# Altium schematic symbol library bee_hive_Schlib1.SchLib: 1 symbol
Pins are listed as number, name and electrical type; pins without a type are passive.

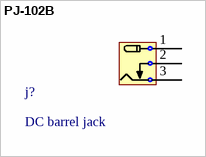
[diagram p0: symbol PJ-102B]

## PJ-102B
designator j?, comment DC barrel jack
CONN PWR JACK 2.5X5.5MM SOLDER; Manufacturer: CUI; Manufacturer Part Number: PJ-102B; Voltage Rating: 24V; Gender: Male; Shielding: Unshielded; Current Rating: 2.5A; Insulation Resistance: 100MR; Number of Conductors: 2; Categories: Connectors, Interconnects; Supplier 1: Mouser; Stock 1: 0; Mount: Through Hole; Contact Plating: Nickel; Housing Color: Black; Housing Material: Thermoplastic; Contact Material: Copper; Min Operating Temperature: -25°C; Max Operating Temperature: 85°C; Package Quantity: 280; Packaging: Bulk; Termination: Through Hole; Connector Type: Jack; Orientation: Horizontal; Contact Gender: Male; Diameter: 2.5mm; Lead Free: Lead Free; Flammability Rating: UL94 V-0; Supplier Part Number 1: 490-PJ-102B; Color: Black
pins: 1 +, 2 -, 3 -